# EAGLE library part DISP_7SEG (library dp_devices)
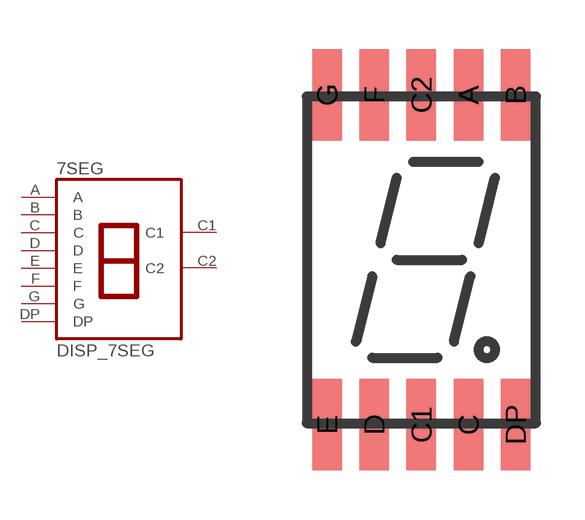
[diagram p17: symbol with the pads of DISP_7SEG; footprint DISP_7SEG]

Designator prefix 7SEG

## DISP_7SEG  [DISP_7SEG]
A  A
B  B
C  C
C1  C1
C2  C2
D  D
DP  DP
E  E
F  F
G  G

## Footprint DISP_7SEG (pad centres in mm)
smd 0.9 x 2.8: A 1.44,5.04; B 2.88,5.04; C 1.44,-5.04; C1 0,-5.04; C2 0,5.04; D -1.44,-5.04; DP 2.88,-5.04; E -2.88,-5.04; F -1.44,5.04; G -2.88,5.04